# Altium integrated library NSC Switcher.IntLib: 889 symbols (part 12 of 23)
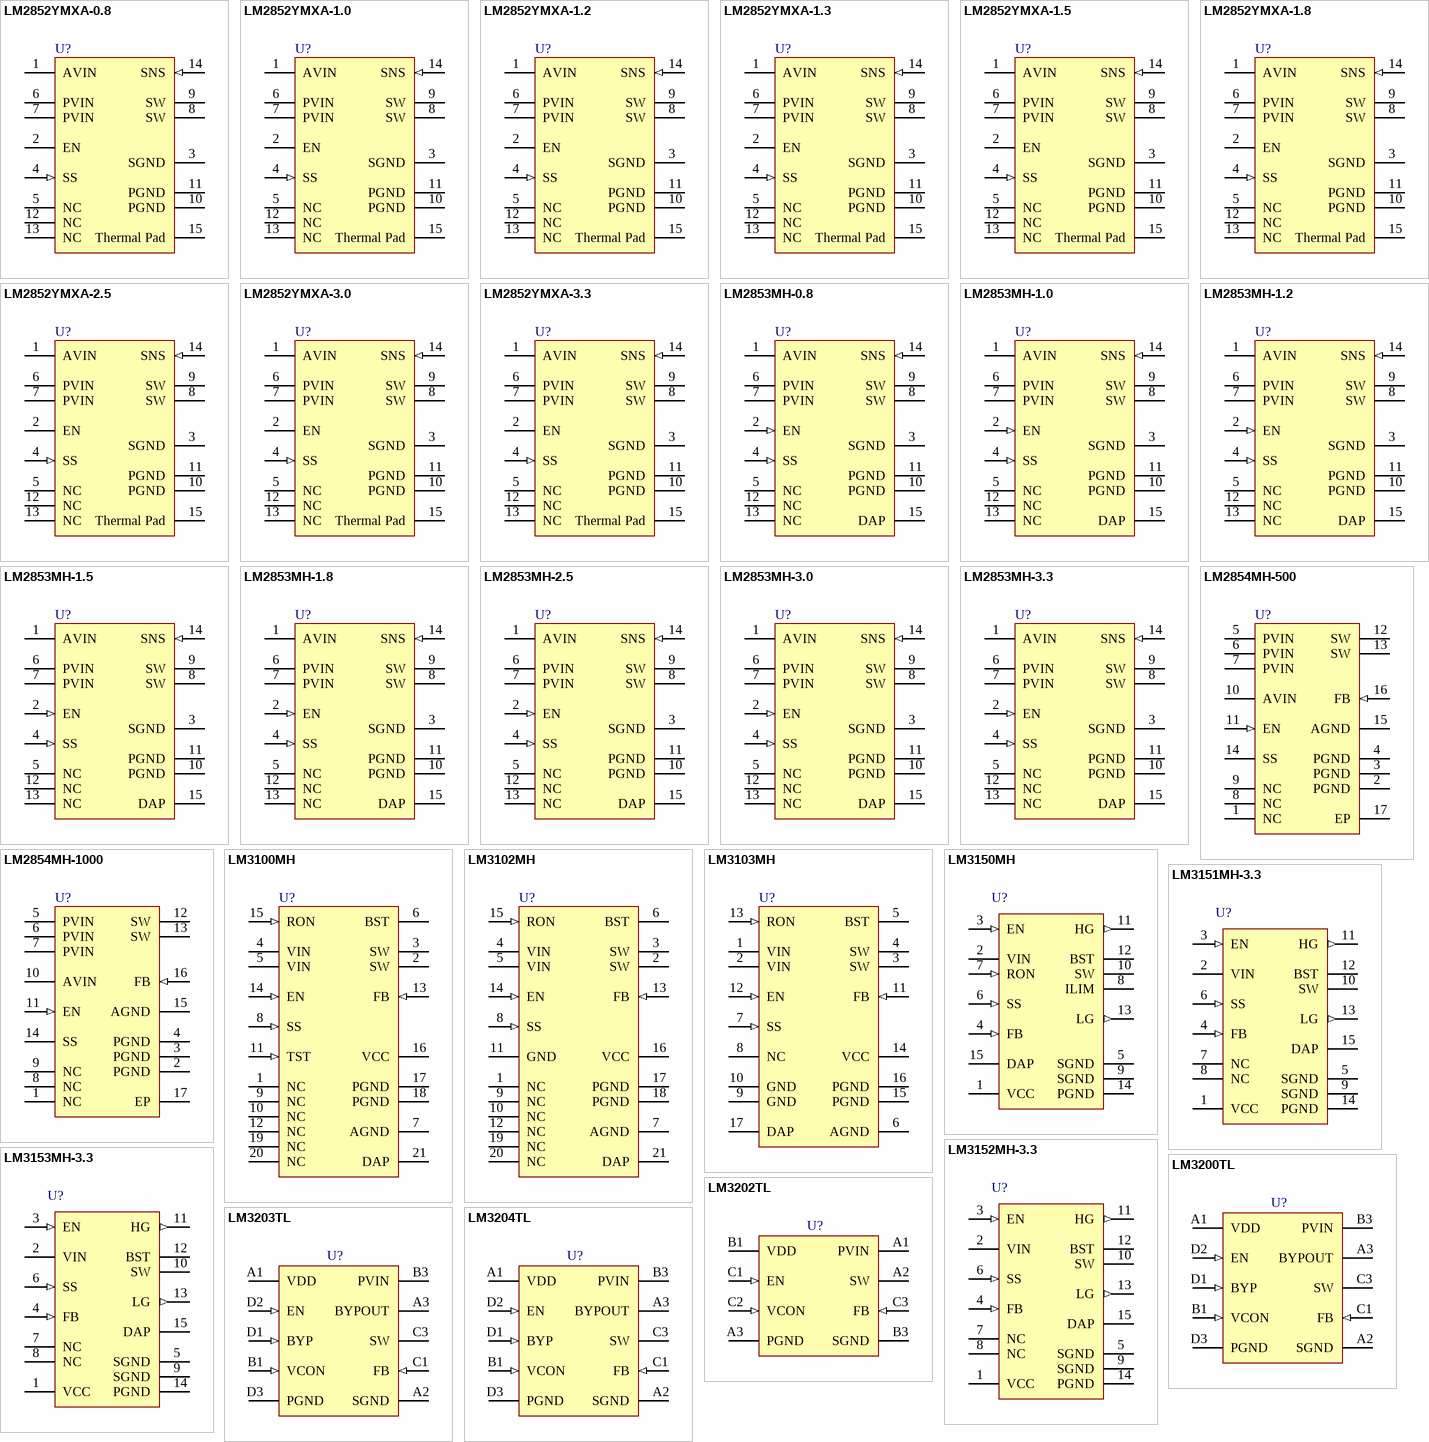
[diagram p38: symbols LM2852YMXA-0.8 to LM3204TL]

## LM2852YMXA-3.0
designator U?
2A 500/1500kHz Synchronous SIMPLE SWITCHER; Buck Regulator; PartNumber: LM2852YMXA-3.0; Manufacturer: National Semiconductor; PackageTopMarking: NSUZXYTT*2852Y*3.0; PowerWise: N; Published: 4-Dec-2008; DatasheetVersion: Oct-2006; PackageVersion: revA, Feb-2003; PackageReference: MXA14A; Publisher: Altium Limited; PackageDescription: Molded TSSOP, JEDEC, Exposed Pad, 5.0 x 4.4 x 0.9mm Body, 14 Lead, 0.65mm Pitch; CompType: Switcher; RoHS: Y; PinCount: 14; DigiKeyPartNumber: LM2852YMXA-3.0-ND; Code_JEDEC: MO-153-ABT-1; ComponentLink1Description: LM2852 Datasheet; ComponentLink1URL: http://www.national.com/ds/LM/LM2852.pdf; ComponentLink2Description: LM2852 Web Page; ComponentLink2URL: http://www.national.com/pf/LM/LM2852.html; ComponentLink3Description: MXA14A Package Page; ComponentLink3URL: http://www.national.com/packaging/folders/mxa14a.html
footprint MXA14A_N (TSOP, 14-Leads, Body 5x4.4mm, Pitch 0.65mm, Exposed Pad, IPC Medium Density)
footprint MXA14A_L (TSOP, 14-Leads, Body 5x4.4mm, Pitch 0.65mm, Exposed Pad, IPC High Density)
footprint MXA14A_M (TSOP, 14-Leads, Body 5x4.4mm, Pitch 0.65mm, Exposed Pad, IPC Low Density)
pins: 1 AVIN (power), 2 EN, 3 SGND (power), 4 SS (in), 5 NC, 6 PVIN (power), 7 PVIN (power), 8 SW (power), 9 SW (power), 10 PGND (power), 11 PGND (power), 12 NC, 13 NC, 14 SNS (in), 15 Thermal Pad (power)

## LM2852YMXA-3.3
designator U?
2A 500/1500kHz Synchronous SIMPLE SWITCHER; Buck Regulator; PartNumber: LM2852YMXA-3.3; Manufacturer: National Semiconductor; PackageTopMarking: NSUZXYTT*2852Y*-3.3; PowerWise: Y; Published: 4-Dec-2008; DatasheetVersion: Oct-2006; PackageVersion: revA, Feb-2003; PackageReference: MXA14A; Publisher: Altium Limited; PackageDescription: Molded TSSOP, JEDEC, Exposed Pad, 5.0 x 4.4 x 0.9mm Body, 14 Lead, 0.65mm Pitch; CompType: Switcher; RoHS: Y; PinCount: 14; DigiKeyPartNumber: LM2852YMXA-3.3-ND; Code_JEDEC: MO-153-ABT-1; ComponentLink1Description: LM2852 Datasheet; ComponentLink1URL: http://www.national.com/ds/LM/LM2852.pdf; ComponentLink2Description: LM2852 Web Page; ComponentLink2URL: http://www.national.com/pf/LM/LM2852.html; ComponentLink3Description: MXA14A Package Page; ComponentLink3URL: http://www.national.com/packaging/folders/mxa14a.html
footprint MXA14A_N (TSOP, 14-Leads, Body 5x4.4mm, Pitch 0.65mm, Exposed Pad, IPC Medium Density)
footprint MXA14A_L (TSOP, 14-Leads, Body 5x4.4mm, Pitch 0.65mm, Exposed Pad, IPC High Density)
footprint MXA14A_M (TSOP, 14-Leads, Body 5x4.4mm, Pitch 0.65mm, Exposed Pad, IPC Low Density)
pins: 1 AVIN (power), 2 EN, 3 SGND (power), 4 SS (in), 5 NC, 6 PVIN (power), 7 PVIN (power), 8 SW (power), 9 SW (power), 10 PGND (power), 11 PGND (power), 12 NC, 13 NC, 14 SNS (in), 15 Thermal Pad (power)

## LM2853MH-0.8
designator U?
3A 550 kHz Synchronous SIMPLE SWITCHER; Buck Regulator; PartNumber: LM2853MH-0.8; Manufacturer: National Semiconductor; PackageTopMarking: NSUZXYTT*LM2853*-0.8; PowerWise: Y; Published: 4-Dec-2008; DatasheetVersion: Oct-2006; PackageVersion: revA, Feb-2003; PackageReference: MXA14A; Publisher: Altium Limited; PackageDescription: Molded TSSOP, JEDEC, Exposed Pad, 5.0 x 4.4 x 0.9mm Body, 14 Lead, 0.65mm Pitch; CompType: Switcher; RoHS: Y; PinCount: 14; DigiKeyPartNumber: LM2853MH-0.8-ND; Code_JEDEC: MO-153-ABT-1; ComponentLink1Description: LM2853 Datasheet; ComponentLink1URL: http://www.national.com/ds/LM/LM2853.pdf; ComponentLink2Description: LM2853 Web Page; ComponentLink2URL: http://www.national.com/pf/LM/LM2853.html; ComponentLink3Description: MXA14A Package Page; ComponentLink3URL: http://www.national.com/packaging/folders/mxa14a.html
footprint MXA14A_N (TSOP, 14-Leads, Body 5x4.4mm, Pitch 0.65mm, Exposed Pad, IPC Medium Density)
footprint MXA14A_L (TSOP, 14-Leads, Body 5x4.4mm, Pitch 0.65mm, Exposed Pad, IPC High Density)
footprint MXA14A_M (TSOP, 14-Leads, Body 5x4.4mm, Pitch 0.65mm, Exposed Pad, IPC Low Density)
pins: 1 AVIN (power), 2 EN (in), 3 SGND (power), 4 SS (in), 5 NC, 6 PVIN (power), 7 PVIN (power), 8 SW (power), 9 SW (power), 10 PGND (power), 11 PGND (power), 12 NC, 13 NC, 14 SNS (in), 15 DAP (power)

## LM2853MH-1.0
designator U?
3A 550 kHz Synchronous SIMPLE SWITCHER; Buck Regulator; PartNumber: LM2853MH-1.0; Manufacturer: National Semiconductor; PackageTopMarking: NSUZXYTT*LM2853*-1.0; PowerWise: Y; Published: 4-Dec-2008; DatasheetVersion: Oct-2006; PackageVersion: revA, Feb-2003; PackageReference: MXA14A; Publisher: Altium Limited; PackageDescription: Molded TSSOP, JEDEC, Exposed Pad, 5.0 x 4.4 x 0.9mm Body, 14 Lead, 0.65mm Pitch; CompType: Switcher; RoHS: Y; PinCount: 14; DigiKeyPartNumber: LM2853MH-1.0-ND; Code_JEDEC: MO-153-ABT-1; ComponentLink1Description: LM2853 Datasheet; ComponentLink1URL: http://www.national.com/ds/LM/LM2853.pdf; ComponentLink2Description: LM2853 Web Page; ComponentLink2URL: http://www.national.com/pf/LM/LM2853.html; ComponentLink3Description: MXA14A Package Page; ComponentLink3URL: http://www.national.com/packaging/folders/mxa14a.html
footprint MXA14A_N (TSOP, 14-Leads, Body 5x4.4mm, Pitch 0.65mm, Exposed Pad, IPC Medium Density)
footprint MXA14A_L (TSOP, 14-Leads, Body 5x4.4mm, Pitch 0.65mm, Exposed Pad, IPC High Density)
footprint MXA14A_M (TSOP, 14-Leads, Body 5x4.4mm, Pitch 0.65mm, Exposed Pad, IPC Low Density)
pins: 1 AVIN (power), 2 EN (in), 3 SGND (power), 4 SS (in), 5 NC, 6 PVIN (power), 7 PVIN (power), 8 SW (power), 9 SW (power), 10 PGND (power), 11 PGND (power), 12 NC, 13 NC, 14 SNS (in), 15 DAP (power)

## LM2853MH-1.2
designator U?
3A 550 kHz Synchronous SIMPLE SWITCHER; Buck Regulator; PartNumber: LM2853MH-1.2; Manufacturer: National Semiconductor; PackageTopMarking: NSUZXYTT*LM2853*-1.2; PowerWise: Y; Published: 4-Dec-2008; DatasheetVersion: Oct-2006; PackageVersion: revA, Feb-2003; PackageReference: MXA14A; Publisher: Altium Limited; PackageDescription: Molded TSSOP, JEDEC, Exposed Pad, 5.0 x 4.4 x 0.9mm Body, 14 Lead, 0.65mm Pitch; CompType: Switcher; RoHS: Y; PinCount: 14; DigiKeyPartNumber: LM2853MH-1.2-ND; Code_JEDEC: MO-153-ABT-1; ComponentLink1Description: LM2853 Datasheet; ComponentLink1URL: http://www.national.com/ds/LM/LM2853.pdf; ComponentLink2Description: LM2853 Web Page; ComponentLink2URL: http://www.national.com/pf/LM/LM2853.html; ComponentLink3Description: MXA14A Package Page; ComponentLink3URL: http://www.national.com/packaging/folders/mxa14a.html
footprint MXA14A_N (TSOP, 14-Leads, Body 5x4.4mm, Pitch 0.65mm, Exposed Pad, IPC Medium Density)
footprint MXA14A_L (TSOP, 14-Leads, Body 5x4.4mm, Pitch 0.65mm, Exposed Pad, IPC High Density)
footprint MXA14A_M (TSOP, 14-Leads, Body 5x4.4mm, Pitch 0.65mm, Exposed Pad, IPC Low Density)
pins: 1 AVIN (power), 2 EN (in), 3 SGND (power), 4 SS (in), 5 NC, 6 PVIN (power), 7 PVIN (power), 8 SW (power), 9 SW (power), 10 PGND (power), 11 PGND (power), 12 NC, 13 NC, 14 SNS (in), 15 DAP (power)

## LM2853MH-1.5
designator U?
3A 550 kHz Synchronous SIMPLE SWITCHER; Buck Regulator; PartNumber: LM2853MH-1.5; Manufacturer: National Semiconductor; PackageTopMarking: NSUZXYTT*LM2853*-1.5; PowerWise: Y; Published: 4-Dec-2008; DatasheetVersion: Oct-2006; PackageVersion: revA, Feb-2003; PackageReference: MXA14A; Publisher: Altium Limited; PackageDescription: Molded TSSOP, JEDEC, Exposed Pad, 5.0 x 4.4 x 0.9mm Body, 14 Lead, 0.65mm Pitch; CompType: Switcher; RoHS: Y; PinCount: 14; DigiKeyPartNumber: LM2853MH-1.5-ND; Code_JEDEC: MO-153-ABT-1; ComponentLink1Description: LM2853 Datasheet; ComponentLink1URL: http://www.national.com/ds/LM/LM2853.pdf; ComponentLink2Description: LM2853 Web Page; ComponentLink2URL: http://www.national.com/pf/LM/LM2853.html; ComponentLink3Description: MXA14A Package Page; ComponentLink3URL: http://www.national.com/packaging/folders/mxa14a.html
footprint MXA14A_N (TSOP, 14-Leads, Body 5x4.4mm, Pitch 0.65mm, Exposed Pad, IPC Medium Density)
footprint MXA14A_L (TSOP, 14-Leads, Body 5x4.4mm, Pitch 0.65mm, Exposed Pad, IPC High Density)
footprint MXA14A_M (TSOP, 14-Leads, Body 5x4.4mm, Pitch 0.65mm, Exposed Pad, IPC Low Density)
pins: 1 AVIN (power), 2 EN (in), 3 SGND (power), 4 SS (in), 5 NC, 6 PVIN (power), 7 PVIN (power), 8 SW (power), 9 SW (power), 10 PGND (power), 11 PGND (power), 12 NC, 13 NC, 14 SNS (in), 15 DAP (power)

## LM2853MH-1.8
designator U?
3A 550 kHz Synchronous SIMPLE SWITCHER; Buck Regulator; PartNumber: LM2853MH-1.8; Manufacturer: National Semiconductor; PackageTopMarking: NSUZXYTT*LM2853*-1.8; PowerWise: Y; Published: 4-Dec-2008; DatasheetVersion: Oct-2006; PackageVersion: revA, Feb-2003; PackageReference: MXA14A; Publisher: Altium Limited; PackageDescription: Molded TSSOP, JEDEC, Exposed Pad, 5.0 x 4.4 x 0.9mm Body, 14 Lead, 0.65mm Pitch; CompType: Switcher; RoHS: Y; PinCount: 14; DigiKeyPartNumber: LM2853MH-1.8-ND; Code_JEDEC: MO-153-ABT-1; ComponentLink1Description: LM2853 Datasheet; ComponentLink1URL: http://www.national.com/ds/LM/LM2853.pdf; ComponentLink2Description: LM2853 Web Page; ComponentLink2URL: http://www.national.com/pf/LM/LM2853.html; ComponentLink3Description: MXA14A Package Page; ComponentLink3URL: http://www.national.com/packaging/folders/mxa14a.html
footprint MXA14A_N (TSOP, 14-Leads, Body 5x4.4mm, Pitch 0.65mm, Exposed Pad, IPC Medium Density)
footprint MXA14A_L (TSOP, 14-Leads, Body 5x4.4mm, Pitch 0.65mm, Exposed Pad, IPC High Density)
footprint MXA14A_M (TSOP, 14-Leads, Body 5x4.4mm, Pitch 0.65mm, Exposed Pad, IPC Low Density)
pins: 1 AVIN (power), 2 EN (in), 3 SGND (power), 4 SS (in), 5 NC, 6 PVIN (power), 7 PVIN (power), 8 SW (power), 9 SW (power), 10 PGND (power), 11 PGND (power), 12 NC, 13 NC, 14 SNS (in), 15 DAP (power)

## LM2853MH-2.5
designator U?
3A 550 kHz Synchronous SIMPLE SWITCHER; Buck Regulator; PartNumber: LM2853MH-2.5; Manufacturer: National Semiconductor; PackageTopMarking: NSUZXYTT*LM2853*-2.5; PowerWise: Y; Published: 4-Dec-2008; DatasheetVersion: Oct-2006; PackageVersion: revA, Feb-2003; PackageReference: MXA14A; Publisher: Altium Limited; PackageDescription: Molded TSSOP, JEDEC, Exposed Pad, 5.0 x 4.4 x 0.9mm Body, 14 Lead, 0.65mm Pitch; CompType: Switcher; RoHS: Y; PinCount: 14; DigiKeyPartNumber: LM2853MH-2.5-ND; Code_JEDEC: MO-153-ABT-1; ComponentLink1Description: LM2853 Datasheet; ComponentLink1URL: http://www.national.com/ds/LM/LM2853.pdf; ComponentLink2Description: LM2853 Web Page; ComponentLink2URL: http://www.national.com/pf/LM/LM2853.html; ComponentLink3Description: MXA14A Package Page; ComponentLink3URL: http://www.national.com/packaging/folders/mxa14a.html
footprint MXA14A_N (TSOP, 14-Leads, Body 5x4.4mm, Pitch 0.65mm, Exposed Pad, IPC Medium Density)
footprint MXA14A_L (TSOP, 14-Leads, Body 5x4.4mm, Pitch 0.65mm, Exposed Pad, IPC High Density)
footprint MXA14A_M (TSOP, 14-Leads, Body 5x4.4mm, Pitch 0.65mm, Exposed Pad, IPC Low Density)
pins: 1 AVIN (power), 2 EN (in), 3 SGND (power), 4 SS (in), 5 NC, 6 PVIN (power), 7 PVIN (power), 8 SW (power), 9 SW (power), 10 PGND (power), 11 PGND (power), 12 NC, 13 NC, 14 SNS (in), 15 DAP (power)

## LM2853MH-3.0
designator U?
3A 550 kHz Synchronous SIMPLE SWITCHER; Buck Regulator; PartNumber: LM2853MH-3.0; Manufacturer: National Semiconductor; PackageTopMarking: NSUZXYTT*LM2853*-3.0; PowerWise: Y; Published: 4-Dec-2008; DatasheetVersion: Oct-2006; PackageVersion: revA, Feb-2003; PackageReference: MXA14A; Publisher: Altium Limited; PackageDescription: Molded TSSOP, JEDEC, Exposed Pad, 5.0 x 4.4 x 0.9mm Body, 14 Lead, 0.65mm Pitch; CompType: Switcher; RoHS: Y; PinCount: 14; DigiKeyPartNumber: LM2853MH-3.0-ND; Code_JEDEC: MO-153-ABT-1; ComponentLink1Description: LM2853 Datasheet; ComponentLink1URL: http://www.national.com/ds/LM/LM2853.pdf; ComponentLink2Description: LM2853 Web Page; ComponentLink2URL: http://www.national.com/pf/LM/LM2853.html; ComponentLink3Description: MXA14A Package Page; ComponentLink3URL: http://www.national.com/packaging/folders/mxa14a.html
footprint MXA14A_N (TSOP, 14-Leads, Body 5x4.4mm, Pitch 0.65mm, Exposed Pad, IPC Medium Density)
footprint MXA14A_L (TSOP, 14-Leads, Body 5x4.4mm, Pitch 0.65mm, Exposed Pad, IPC High Density)
footprint MXA14A_M (TSOP, 14-Leads, Body 5x4.4mm, Pitch 0.65mm, Exposed Pad, IPC Low Density)
pins: 1 AVIN (power), 2 EN (in), 3 SGND (power), 4 SS (in), 5 NC, 6 PVIN (power), 7 PVIN (power), 8 SW (power), 9 SW (power), 10 PGND (power), 11 PGND (power), 12 NC, 13 NC, 14 SNS (in), 15 DAP (power)

## LM2853MH-3.3
designator U?
3A 550 kHz Synchronous SIMPLE SWITCHER; Buck Regulator; PartNumber: LM2853MH-3.3; Manufacturer: National Semiconductor; PackageTopMarking: NSUZXYTT*LM2853*-3.3; PowerWise: Y; Published: 4-Dec-2008; DatasheetVersion: Oct-2006; PackageVersion: revA, Feb-2003; PackageReference: MXA14A; Publisher: Altium Limited; PackageDescription: Molded TSSOP, JEDEC, Exposed Pad, 5.0 x 4.4 x 0.9mm Body, 14 Lead, 0.65mm Pitch; CompType: Switcher; RoHS: Y; PinCount: 14; DigiKeyPartNumber: LM2853MH-3.3-ND; Code_JEDEC: MO-153-ABT-1; ComponentLink1Description: LM2853 Datasheet; ComponentLink1URL: http://www.national.com/ds/LM/LM2853.pdf; ComponentLink2Description: LM2853 Web Page; ComponentLink2URL: http://www.national.com/pf/LM/LM2853.html; ComponentLink3Description: MXA14A Package Page; ComponentLink3URL: http://www.national.com/packaging/folders/mxa14a.html
footprint MXA14A_N (TSOP, 14-Leads, Body 5x4.4mm, Pitch 0.65mm, Exposed Pad, IPC Medium Density)
footprint MXA14A_L (TSOP, 14-Leads, Body 5x4.4mm, Pitch 0.65mm, Exposed Pad, IPC High Density)
footprint MXA14A_M (TSOP, 14-Leads, Body 5x4.4mm, Pitch 0.65mm, Exposed Pad, IPC Low Density)
pins: 1 AVIN (power), 2 EN (in), 3 SGND (power), 4 SS (in), 5 NC, 6 PVIN (power), 7 PVIN (power), 8 SW (power), 9 SW (power), 10 PGND (power), 11 PGND (power), 12 NC, 13 NC, 14 SNS (in), 15 DAP (power)

## LM2854MH-500
designator U?
4A 500 kHz / 1 MHz PowerWise Synchronous SIMPLE SWITCHER Buck Regulator; PartNumber: LM2854MH-500; Manufacturer: National Semiconductor; PackageTopMarking: NSUZXYTT*LM2854*-500; Published: 4-Dec-2008; DatasheetVersion: Apr-2008; PackageVersion: revA, Apr-2003; PackageReference: MXA16A; Publisher: Altium Limited; PackageDescription: Molded TSSOP, Jedec, Exposed Pad, 5.0 x 4.4 x 0.9mm Body,16 Lead, 0.65mm Pitch; CompType: Switcher; RoHS: Y; PinCount: 16; DigiKeyPartNumber: LM2854MH-500-ND; Code_JEDEC: MO-153-ABT; ComponentLink1Description: LM2854 Datasheet; ComponentLink1URL: http://www.national.com/ds/LM/LM2854.pdf; ComponentLink2Description: LM2854 Web Page; ComponentLink2URL: http://www.national.com/pf/LM/LM2854.html; ComponentLink3Description: MXA16A Package Drawing; ComponentLink3URL: http://www.national.com/packaging/folders/mxa16a.html
footprint MXA16A_N (TSOP, 16-Leads, Body 5x4.4mm, Pitch 0.65mm, Exposed Pad, IPC Medium Density)
footprint MXA16A_L (TSOP, 16-Leads, Body 5x4.4mm, Pitch 0.65mm, Exposed Pad, IPC High Density)
footprint MXA16A_M (TSOP, 16-Leads, Body 5x4.4mm, Pitch 0.65mm, Exposed Pad, IPC Low Density)
pins: 1 NC, 2 PGND (power), 3 PGND (power), 4 PGND (power), 5 PVIN (power), 6 PVIN (power), 7 PVIN (power), 8 NC, 9 NC, 10 AVIN (power), 11 EN (in), 12 SW (power), 13 SW (power), 14 SS, 15 AGND (power), 16 FB (in), 17 EP (power)

## LM2854MH-1000
designator U?
4A 500 kHz / 1 MHz PowerWise Synchronous SIMPLE SWITCHER Buck Regulator; PartNumber: LM2854MH-1000; Manufacturer: National Semiconductor; PackageTopMarking: NSUZXYTT*LM2854*-1000; Published: 4-Dec-2008; DatasheetVersion: Apr-2008; PackageVersion: revA, Apr-2003; PackageReference: MXA16A; Publisher: Altium Limited; PackageDescription: Molded TSSOP, Jedec, Exposed Pad, 5.0 x 4.4 x 0.9mm Body,16 Lead, 0.65mm Pitch; CompType: Switcher; RoHS: Y; PinCount: 16; DigiKeyPartNumber: LM2854MH-1000-ND; Code_JEDEC: MO-153-ABT; ComponentLink1Description: LM2854 Datasheet; ComponentLink1URL: http://www.national.com/ds/LM/LM2854.pdf; ComponentLink2Description: LM2854 Web Page; ComponentLink2URL: http://www.national.com/pf/LM/LM2854.html; ComponentLink3Description: MXA16A Package Drawing; ComponentLink3URL: http://www.national.com/packaging/folders/mxa16a.html
footprint MXA16A_N (TSOP, 16-Leads, Body 5x4.4mm, Pitch 0.65mm, Exposed Pad, IPC Medium Density)
footprint MXA16A_L (TSOP, 16-Leads, Body 5x4.4mm, Pitch 0.65mm, Exposed Pad, IPC High Density)
footprint MXA16A_M (TSOP, 16-Leads, Body 5x4.4mm, Pitch 0.65mm, Exposed Pad, IPC Low Density)
pins: 1 NC, 2 PGND (power), 3 PGND (power), 4 PGND (power), 5 PVIN (power), 6 PVIN (power), 7 PVIN (power), 8 NC, 9 NC, 10 AVIN (power), 11 EN (in), 12 SW (power), 13 SW (power), 14 SS, 15 AGND (power), 16 FB (in), 17 EP (power)

## LM3100MH
designator U?
Synchronous 1MHz 1.5A Step-Down Voltage  Regulator; PartNumber: LM3100MH; Manufacturer: National Semiconductor; CompType: Switcher; PackageTopMarking: NSUZXYTT*LM3100*MH; PowerWise: Y; Published: 4-Dec-2008; DatasheetVersion: Aug-2007; PackageVersion: revC, Jul-2006; PackageReference: MXA20A; Publisher: Altium Limited; PackageDescription: Molded TSSOP, Jedec, 6.5 x 4.4 x 0.9mm Body, 20 Lead, 0.65mm Pitch, Exposed Pad; RoHS: Y; PinCount: 20; DigiKeyPartNumber: LM3100MH-ND; Code_JEDEC: MO-153-ACT; ComponentLink1Description: LM3100 Datasheet; ComponentLink1URL: http://www.national.com/ds/LM/LM3100.pdf; ComponentLink2Description: LM3100 Web Page; ComponentLink2URL: http://www.national.com/pf/LM/LM3100.html; ComponentLink3Description: MXA20A Package Page; ComponentLink3URL: http://www.national.com/packaging/folders/mxa20a.html
footprint MXA20A_N (TSOP, 20-Leads, Body 6.5x4.4mm, Pitch 0.65mm, Exposed Pad, IPC Medium Density)
footprint MXA20A_L (TSOP, 20-Leads, Body 6.5x4.4mm, Pitch 0.65mm, Exposed Pad, IPC High Density)
footprint MXA20A_M (TSOP, 20-Leads, Body 6.5x4.4mm, Pitch 0.65mm, Exposed Pad, IPC Low Density)
pins: 1 NC, 2 SW (power), 3 SW (power), 4 VIN (power), 5 VIN (power), 6 BST, 7 AGND (power), 8 SS (in), 9 NC, 10 NC, 11 TST (in), 12 NC, 13 FB (in), 14 EN (in), 15 RON (in), 16 VCC (power), 17 PGND (power), 18 PGND (power), 19 NC, 20 NC, 21 DAP (power)

## LM3102MH
designator U?
Synchronous 1MHz 2.5A Step-Down Voltage  Regulator; PartNumber: LM3102MH; Manufacturer: National Semiconductor; CompType: Switcher; PackageTopMarking: NSUZXYTT*LM3102*MH; PowerWise: Y; Published: 4-Dec-2008; DatasheetVersion: Sep-2007; PackageVersion: revC, Jul-2006; PackageReference: MXA20A; Publisher: Altium Limited; PackageDescription: Molded TSSOP, Jedec, 6.5 x 4.4 x 0.9mm Body, 20 Lead, 0.65mm Pitch, Exposed Pad; RoHS: Y; PinCount: 20; DigiKeyPartNumber: LM3102MH-ND; Code_JEDEC: MO-153-ACT; ComponentLink1Description: LM3102 Datasheet; ComponentLink1URL: http://www.national.com/ds/LM/LM3102.pdf; ComponentLink2Description: LM3102 Web Page; ComponentLink2URL: http://www.national.com/pf/LM/LM3102.html; ComponentLink3Description: MXA20A Package Page; ComponentLink3URL: http://www.national.com/packaging/folders/mxa20a.html
footprint MXA20A_N (TSOP, 20-Leads, Body 6.5x4.4mm, Pitch 0.65mm, Exposed Pad, IPC Medium Density)
footprint MXA20A_L (TSOP, 20-Leads, Body 6.5x4.4mm, Pitch 0.65mm, Exposed Pad, IPC High Density)
footprint MXA20A_M (TSOP, 20-Leads, Body 6.5x4.4mm, Pitch 0.65mm, Exposed Pad, IPC Low Density)
pins: 1 NC, 2 SW (power), 3 SW (power), 4 VIN (power), 5 VIN (power), 6 BST, 7 AGND (power), 8 SS (in), 9 NC, 10 NC, 11 GND (power), 12 NC, 13 FB (in), 14 EN (in), 15 RON (in), 16 VCC (power), 17 PGND (power), 18 PGND (power), 19 NC, 20 NC, 21 DAP (power)

## LM3103MH
designator U?
Synchronous 1MHz 0.75A Step-Down Voltage  Regulator; PartNumber: LM3103MH; Manufacturer: National Semiconductor; CompType: Switcher; PackageTopMarking: NSUZXYTT*LM3103*MH; PowerWise: Y; Published: 4-Dec-2008; DatasheetVersion: Oct-2007; PackageVersion: revA, Apr-2003; PackageReference: MXA16A; Publisher: Altium Limited; PackageDescription: Molded TSSOP, Jedec, Exposed Pad, 5.0 x 4.4 x 0.9mm Body,16 Lead, 0.65mm Pitch; RoHS: Y; PinCount: 16; DigiKeyPartNumber: LM3103MH-ND; Code_JEDEC: MO-153-ABT; ComponentLink1Description: LM3103 Datasheet; ComponentLink1URL: http://www.national.com/ds/LM/LM3103.pdf; ComponentLink2Description: LM3103 Web Page; ComponentLink2URL: http://www.national.com/pf/LM/LM3103.html; ComponentLink3Description: MXA16A Package Page; ComponentLink3URL: http://www.national.com/packaging/folders/mxa16a.html
footprint MXA16A_N (TSOP, 16-Leads, Body 5x4.4mm, Pitch 0.65mm, Exposed Pad, IPC Medium Density)
footprint MXA16A_L (TSOP, 16-Leads, Body 5x4.4mm, Pitch 0.65mm, Exposed Pad, IPC High Density)
footprint MXA16A_M (TSOP, 16-Leads, Body 5x4.4mm, Pitch 0.65mm, Exposed Pad, IPC Low Density)
pins: 1 VIN (power), 2 VIN (power), 3 SW (power), 4 SW (power), 5 BST, 6 AGND (power), 7 SS (in), 8 NC, 9 GND (power), 10 GND (power), 11 FB (in), 12 EN (in), 13 RON (in), 14 VCC (power), 15 PGND (power), 16 PGND (power), 17 DAP (power)

## LM3150MH
designator U?
SIMPLE SWITCHER CONTROLLER, 42V Synchronous Step-Down; PartNumber: LM3150MH; Manufacturer: National Semiconductor; PackageTopMarking: NSUZXYTT*LM3150*MH; PowerWise: Y; Published: 4-Dec-2008; DatasheetVersion: Oct-2008; PackageVersion: revA, Feb-2003; PackageReference: MXA14A; Publisher: Altium Limited; PackageDescription: Molded TSSOP, JEDEC, Exposed Pad, 5.0 x 4.4 x 0.9mm Body, 14 Lead, 0.65mm Pitch; CompType: Switcher; RoHS: Y; PinCount: 14; DigiKeyPartNumber: LM3150MH-ND; Code_JEDEC: MO-153-ABT-1; ComponentLink1Description: LM3150 Datasheet; ComponentLink1URL: http://www.national.com/ds/LM/LM3150.pdf; ComponentLink2Description: LM3150 Web Page; ComponentLink2URL: http://www.national.com/pf/LM/LM3150.html; ComponentLink3Description: MXA14A Package Drawing; ComponentLink3URL: http://www.national.com/packaging/folders/mxa14a.html
footprint MXA14A_N (TSOP, 14-Leads, Body 5x4.4mm, Pitch 0.65mm, Exposed Pad, IPC Medium Density)
footprint MXA14A_L (TSOP, 14-Leads, Body 5x4.4mm, Pitch 0.65mm, Exposed Pad, IPC High Density)
footprint MXA14A_M (TSOP, 14-Leads, Body 5x4.4mm, Pitch 0.65mm, Exposed Pad, IPC Low Density)
pins: 1 VCC (power), 2 VIN (power), 3 EN (in), 4 FB (in), 5 SGND (power), 6 SS (in), 7 RON (in), 8 ILIM, 9 SGND (power), 10 SW (power), 11 HG (out), 12 BST, 13 LG (out), 14 PGND (power), 15 DAP (power)

## LM3151MH-3.3
designator U?
SIMPLE SWITCHER CONTROLLER, 42V Synchronous Step-Down; PartNumber: LM3151MH-3.3; Manufacturer: National Semiconductor; PackageTopMarking: NSUZXYTT*LM3151*-3.3; PowerWise: Y; Published: 4-Dec-2008; DatasheetVersion: Oct-2008; PackageVersion: revA, Feb-2003; PackageReference: MXA14A; Publisher: Altium Limited; PackageDescription: Molded TSSOP, JEDEC, Exposed Pad, 5.0 x 4.4 x 0.9mm Body, 14 Lead, 0.65mm Pitch; CompType: Switcher; RoHS: Y; PinCount: 14; DigiKeyPartNumber: LM3151MH-3.3-ND; Code_JEDEC: MO-153-ABT-1; ComponentLink1Description: LM3151 Datasheet; ComponentLink1URL: http://www.national.com/ds/LM/LM3151.pdf; ComponentLink2Description: LM3151 Web Page; ComponentLink2URL: http://www.national.com/pf/LM/LM3151.html; ComponentLink3Description: MXA14A Package Drawing; ComponentLink3URL: http://www.national.com/packaging/folders/mxa14a.html
footprint MXA14A_N (TSOP, 14-Leads, Body 5x4.4mm, Pitch 0.65mm, Exposed Pad, IPC Medium Density)
footprint MXA14A_L (TSOP, 14-Leads, Body 5x4.4mm, Pitch 0.65mm, Exposed Pad, IPC High Density)
footprint MXA14A_M (TSOP, 14-Leads, Body 5x4.4mm, Pitch 0.65mm, Exposed Pad, IPC Low Density)
pins: 1 VCC (power), 2 VIN (power), 3 EN (in), 4 FB (in), 5 SGND (power), 6 SS (in), 7 NC, 8 NC, 9 SGND (power), 10 SW (power), 11 HG (out), 12 BST, 13 LG (out), 14 PGND (power), 15 DAP (power)

## LM3152MH-3.3
designator U?
SIMPLE SWITCHER CONTROLLER, 42V Synchronous Step-Down; PartNumber: LM3152MH-3.3; Manufacturer: National Semiconductor; PackageTopMarking: NSUZXYTT*LM3152*-3.3; PowerWise: Y; Published: 4-Dec-2008; DatasheetVersion: Oct-2008; PackageVersion: revA, Feb-2003; PackageReference: MXA14A; Publisher: Altium Limited; PackageDescription: Molded TSSOP, JEDEC, Exposed Pad, 5.0 x 4.4 x 0.9mm Body, 14 Lead, 0.65mm Pitch; CompType: Switcher; RoHS: Y; PinCount: 14; DigiKeyPartNumber: LM3152MH-3.3-ND; Code_JEDEC: MO-153-ABT-1; ComponentLink1Description: LM3152 Datasheet; ComponentLink1URL: http://www.national.com/ds/LM/LM3152.pdf; ComponentLink2Description: LM3152 Web Page; ComponentLink2URL: http://www.national.com/pf/LM/LM3152.html; ComponentLink3Description: MXA14A Package Drawing; ComponentLink3URL: http://www.national.com/packaging/folders/mxa14a.html
footprint MXA14A_N (TSOP, 14-Leads, Body 5x4.4mm, Pitch 0.65mm, Exposed Pad, IPC Medium Density)
footprint MXA14A_L (TSOP, 14-Leads, Body 5x4.4mm, Pitch 0.65mm, Exposed Pad, IPC High Density)
footprint MXA14A_M (TSOP, 14-Leads, Body 5x4.4mm, Pitch 0.65mm, Exposed Pad, IPC Low Density)
pins: 1 VCC (power), 2 VIN (power), 3 EN (in), 4 FB (in), 5 SGND (power), 6 SS (in), 7 NC, 8 NC, 9 SGND (power), 10 SW (power), 11 HG (out), 12 BST, 13 LG (out), 14 PGND (power), 15 DAP (power)

## LM3153MH-3.3
designator U?
SIMPLE SWITCHER CONTROLLER, 42V Synchronous Step-Down; PartNumber: LM3153MH-3.3; Manufacturer: National Semiconductor; PackageTopMarking: NSUZXYTT*LM3153*-3.3; PowerWise: Y; Published: 4-Dec-2008; DatasheetVersion: Oct-2008; PackageVersion: revA, Feb-2003; PackageReference: MXA14A; Publisher: Altium Limited; PackageDescription: Molded TSSOP, JEDEC, Exposed Pad, 5.0 x 4.4 x 0.9mm Body, 14 Lead, 0.65mm Pitch; CompType: Switcher; RoHS: Y; PinCount: 14; DigiKeyPartNumber: LM3153MH-3.3-ND; Code_JEDEC: MO-153-ABT-1; ComponentLink1Description: LM3153 Datasheet; ComponentLink1URL: http://www.national.com/ds/LM/LM3153.pdf; ComponentLink2Description: LM3153 Web Page; ComponentLink2URL: http://www.national.com/pf/LM/LM3153.html; ComponentLink3Description: MXA14A Package Drawing; ComponentLink3URL: http://www.national.com/packaging/folders/mxa14a.html
footprint MXA14A_N (TSOP, 14-Leads, Body 5x4.4mm, Pitch 0.65mm, Exposed Pad, IPC Medium Density)
footprint MXA14A_L (TSOP, 14-Leads, Body 5x4.4mm, Pitch 0.65mm, Exposed Pad, IPC High Density)
footprint MXA14A_M (TSOP, 14-Leads, Body 5x4.4mm, Pitch 0.65mm, Exposed Pad, IPC Low Density)
pins: 1 VCC (power), 2 VIN (power), 3 EN (in), 4 FB (in), 5 SGND (power), 6 SS (in), 7 NC, 8 NC, 9 SGND (power), 10 SW (power), 11 HG (out), 12 BST, 13 LG (out), 14 PGND (power), 15 DAP (power)

## LM3200TL
designator U?
Miniature, Adjustable, Step-Down DC-DC Converter with Bypass Mode for RF Power Amplifiers; PartNumber: LM3200TL; Manufacturer: National Semiconductor; CompType: Switcher; PackageTopMarking: XYTT*I SCUB; Published: 4-Dec-2008; DatasheetVersion: Nov-2005; PackageVersion: revD, Mar-2004; PackageReference: TLP10NHA; Publisher: Altium Limited; PackageDescription: Thin Micro SMD, 10 Bump (Large), Periperal, 0.5mm Pitch; RoHS: Y; PinCount: 10; DigiKeyPartNumber: LM3200TLCT-ND; Code_JEDEC: MO-211-BD; ComponentLink1Description: LM3200 Datasheet; ComponentLink1URL: http://www.national.com/ds/LM/LM3200.pdf; ComponentLink2Description: LM3200 Web Page; ComponentLink2URL: http://www.national.com/pf/LM/LM3200.html; ComponentLink3Description: TLP10NHA Package Drawing; ComponentLink3URL: http://www.national.com/packaging/folders/tlp10nha.html
footprint TLP10NHA (Micro SMD, 10-Leads, Body 2.17x1.82mm, Pitch 0.5mm, NSC Recommended)
pins: A1 VDD (power), A2 SGND (power), A3 BYPOUT (oe), B1 VCON (in), B3 PVIN (power), C1 FB (in), C3 SW, D1 BYP (in), D2 EN (in), D3 PGND (power)

## LM3202TL
designator U?
650mA Miniature, Adjustable, Step-Down DC-DC Converter for RF Power Amplifiers; PartNumber: LM3202TL; Manufacturer: National Semiconductor; CompType: Switcher; PackageTopMarking: XVS*I 29; Published: 4-Dec-2008; DatasheetVersion: Nov-2006; PackageVersion: revC, Jan-2004; PackageReference: TLA08HPA; Publisher: Altium Limited; PackageDescription: Thin Micro SMD, 8 Bump (Large), 0.5mm Pitch; RoHS: Y; PinCount: 8; DigiKeyPartNumber: LM3202TLCT-ND; Code_JEDEC: MO-211-DD; ComponentLink1Description: LM3202 Datasheet; ComponentLink1URL: http://www.national.com/ds/LM/LM3202.pdf; ComponentLink2Description: LM3202 Web Page; ComponentLink2URL: http://www.national.com/pf/LM/LM3202.html; ComponentLink3Description: TLA08HPA Package Drawing; ComponentLink3URL: http://www.national.com/packaging/folders/tla08hpa.html
footprint TLA08HPA (Micro SMD, 8-Leads, Body 1.84x1.69mm, Pitch 0.5mm, NSC Recommended)
pins: A1 PVIN (power), A2 SW, A3 PGND (power), B1 VDD (power), B3 SGND (power), C1 EN (in), C2 VCON (in), C3 FB (in)

## LM3203TL
designator U?
Miniature, Adjustable, Step-Down DC-DC Converter with Bypass Mode for RF Power Amplifiers; PartNumber: LM3203TL; Manufacturer: National Semiconductor; CompType: Switcher; PackageTopMarking: XYTT*I SFYB; Published: 4-Dec-2008; DatasheetVersion: Jul-2005; PackageVersion: revD, Mar-2004; PackageReference: TLP10NHA; Publisher: Altium Limited; PackageDescription: Thin Micro SMD, 10 Bump (Large), Periperal, 0.5mm Pitch; RoHS: Y; PinCount: 10; DigiKeyPartNumber: LM3203TLCT-ND; Code_JEDEC: MO-211-BD; ComponentLink1Description: LM3203 Datasheet; ComponentLink1URL: http://www.national.com/ds/LM/LM3203.pdf; ComponentLink2Description: LM3203 Web Page; ComponentLink2URL: http://www.national.com/pf/LM/LM3203.html; ComponentLink3Description: TLP10NHA Package Drawing; ComponentLink3URL: http://www.national.com/packaging/folders/tlp10nha.html
footprint TLP10NHA (Micro SMD, 10-Leads, Body 2.17x1.82mm, Pitch 0.5mm, NSC Recommended)
pins: A1 VDD (power), A2 SGND (power), A3 BYPOUT (oe), B1 VCON (in), B3 PVIN (power), C1 FB (in), C3 SW, D1 BYP (in), D2 EN (in), D3 PGND (power)

## LM3204TL
designator U?
Miniature, Adjustable, Step-Down DC-DC Converter with Bypass Mode for RF Power Amplifiers; PartNumber: LM3204TL; Manufacturer: National Semiconductor; CompType: Switcher; PackageTopMarking: XYTT*I SJDB; Published: 4-Dec-2008; DatasheetVersion: Nov-2005; PackageVersion: revD, Mar-2004; PackageReference: TLP10NHA; Publisher: Altium Limited; PackageDescription: Thin Micro SMD, 10 Bump (Large), Periperal, 0.5mm Pitch; RoHS: Y; PinCount: 10; DigiKeyPartNumber: LM3204TLCT-ND; Code_JEDEC: MO-211-BD; ComponentLink1Description: LM3204 Datasheet; ComponentLink1URL: http://www.national.com/ds/LM/LM3204.pdf; ComponentLink2Description: LM3204 Web Page; ComponentLink2URL: http://www.national.com/pf/LM/LM3204.html; ComponentLink3Description: TLP10NHA Package Drawing; ComponentLink3URL: http://www.national.com/packaging/folders/tlp10nha.html
footprint TLP10NHA (Micro SMD, 10-Leads, Body 2.17x1.82mm, Pitch 0.5mm, NSC Recommended)
pins: A1 VDD (power), A2 SGND (power), A3 BYPOUT (oe), B1 VCON (in), B3 PVIN (power), C1 FB (in), C3 SW, D1 BYP (in), D2 EN (in), D3 PGND (power)

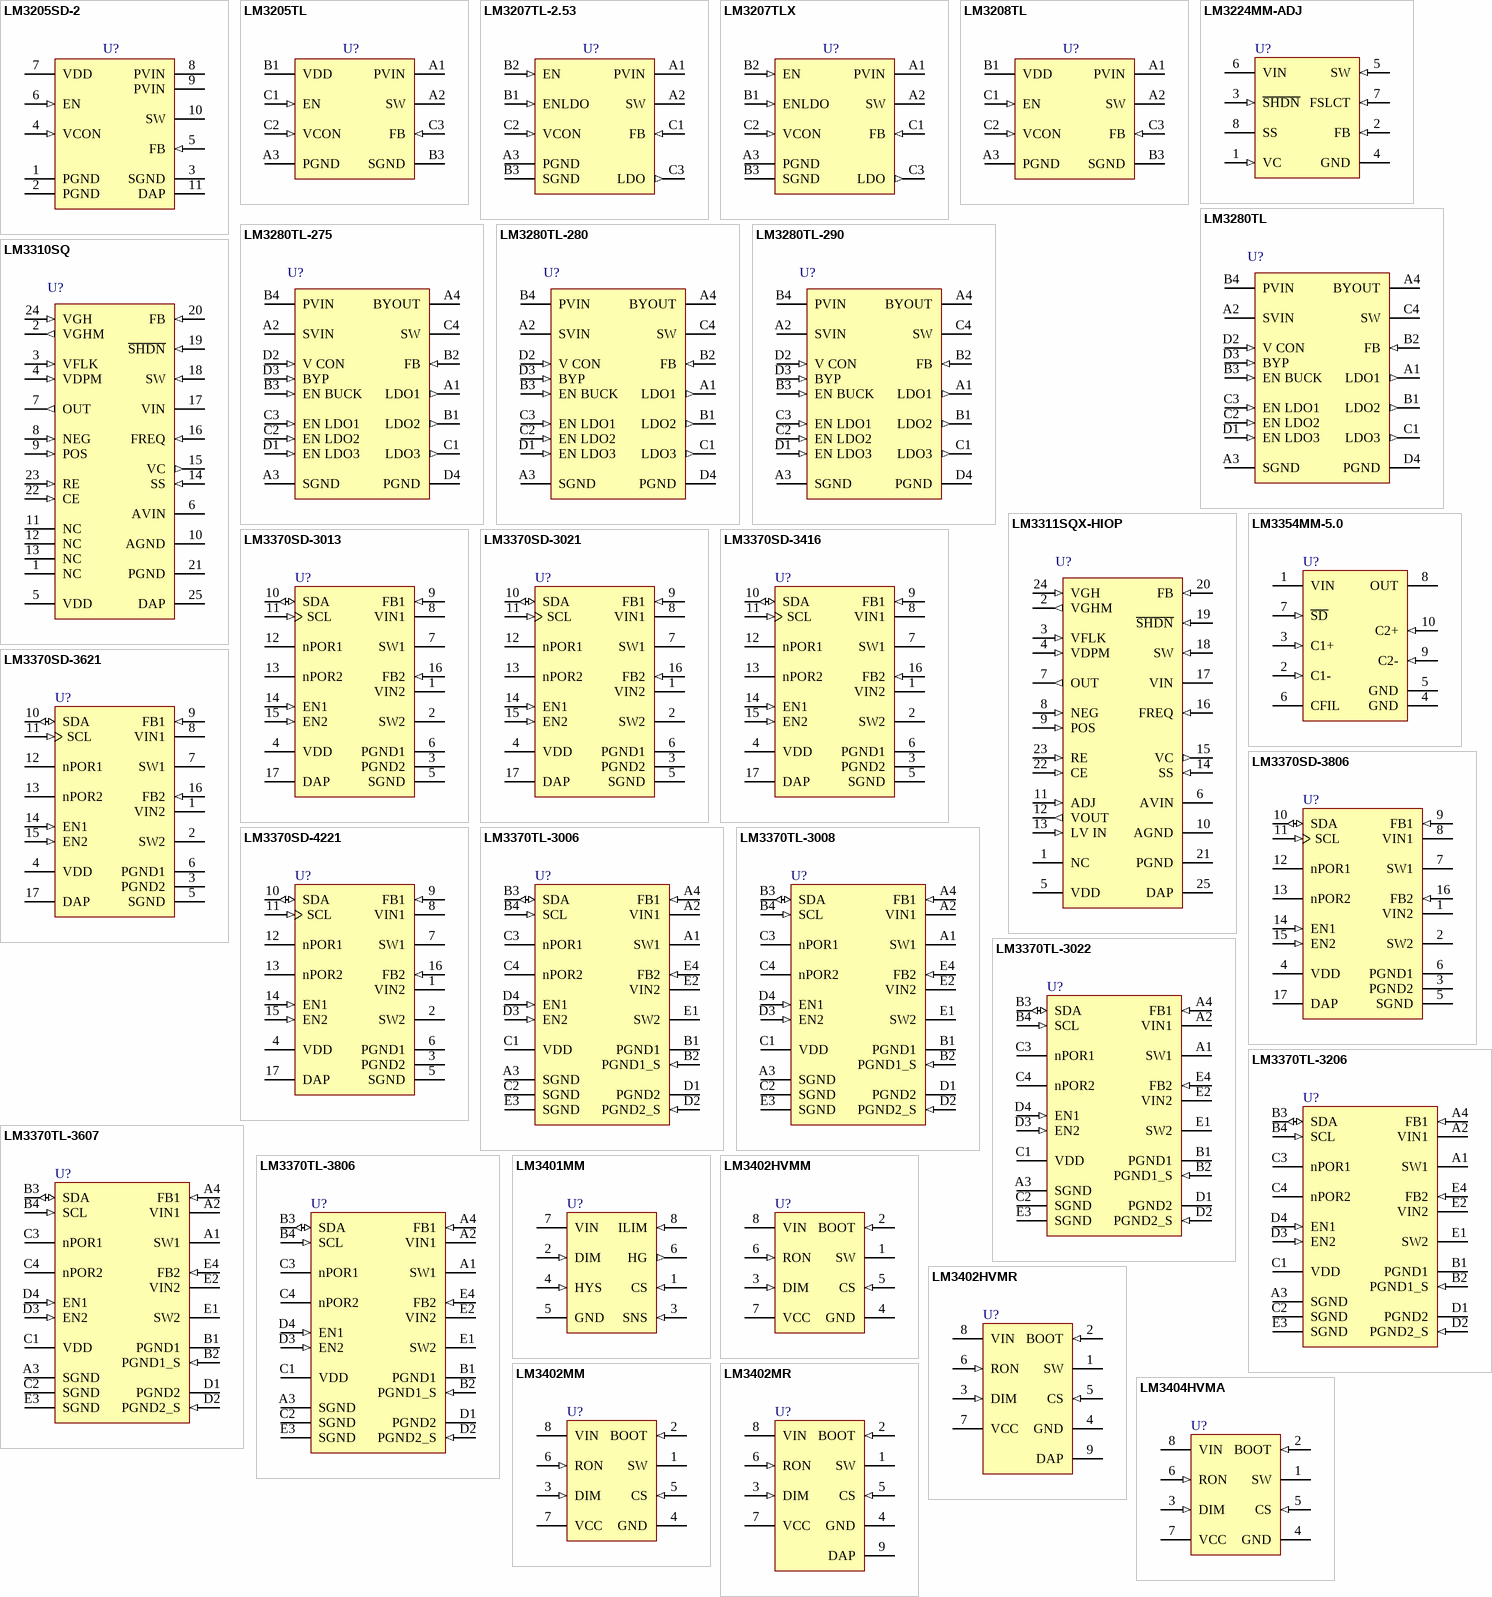
[diagram p14: symbols LM3205SD-2 to LM3404HVMA]

## LM3205SD-2
designator U?
650mA Miniature, Adjustable, Step-Down DC-DC Converter for RF Power Amplifiers; PartNumber: LM3205SD-2; Manufacturer: National Semiconductor; CompType: Switcher; PackageTopMarking: ZXYTT*S006B; Published: 4-Dec-2008; DatasheetVersion: Jan-2006; PackageVersion: revA, Oct-2003; PackageReference: SDA10A; Publisher: Altium Limited; PackageDescription: LLP, Plastic, Dual, 3 x 3 x 0.8mm Body, 10 Lead, 0.5mm Pitch, No Pullback; RoHS: Y; PinCount: 10; DigiKeyPartNumber: LM3205SD-2-ND; ComponentLink1Description: LM3205 Datasheet; ComponentLink1URL: http://www.national.com/ds/LM/LM3205.pdf; ComponentLink2Description: LM3205 Web Page; ComponentLink2URL: http://www.national.com/pf/LM/LM3205.html; ComponentLink3Description: SDA10A Package Drawing; ComponentLink3URL: http://www.national.com/packaging/folders/sda10a.html
footprint SDA10A (SON, 10-Leads, Body 3x3 mm, Pitch 0.5mm, NSC Recommended)
pins: 1 PGND (power), 2 PGND (power), 3 SGND (power), 4 VCON (in), 5 FB (in), 6 EN (in), 7 VDD (power), 8 PVIN (power), 9 PVIN (power), 10 SW, 11 DAP (power)

## LM3205TL
designator U?
650mA Miniature, Adjustable, Step-Down DC-DC Converter for RF Power Amplifiers; PartNumber: LM3205TL; Manufacturer: National Semiconductor; CompType: Switcher; PackageTopMarking: XVS*I 32; Published: 4-Dec-2008; DatasheetVersion: Jan-2006; PackageVersion: revC, Jan-2004; PackageReference: TLA08GNA; Publisher: Altium Limited; PackageDescription: Thin Micro SMD, 8 Bump (Large), 0.5mm Pitch; RoHS: Y; PinCount: 8; DigiKeyPartNumber: LM3205TLCT-ND; Code_JEDEC: MO-211-DD; ComponentLink1Description: LM3205 Datasheet; ComponentLink1URL: http://www.national.com/ds/LM/LM3205.pdf; ComponentLink2Description: LM3205 Web Page; ComponentLink2URL: http://www.national.com/pf/LM/LM3205.html; ComponentLink3Description: TLA08GNA Package Drawing; ComponentLink3URL: http://www.national.com/packaging/folders/tla08gna.html
footprint TLA08GNA (Micro SMD, 8-Leads, Body 1.82x1.67mm, Pitch 0.5mm, NSC Recommended)
pins: A1 PVIN (power), A2 SW, A3 PGND (power), B1 VDD (power), B3 SGND (power), C1 EN (in), C2 VCON (in), C3 FB (in)

## LM3207TL-2.53
designator U?
650mA Miniature, Adjustable, Step-Down DC-DC Converter for RF Power Amplifiers; PartNumber: LM3207TL-2.53; Manufacturer: National Semiconductor; CompType: Switcher; PackageTopMarking: XVS*I 43; Published: 4-Dec-2008; DatasheetVersion: Apr-2007; PackageVersion: revC, Jan-2004; PackageReference: TLA09TTA; Publisher: Altium Limited; PackageDescription: Thin Micro SMD, 9 Bump (Large), 0.5mm Pitch; RoHS: Y; PinCount: 9; DigiKeyPartNumber: LM3207TL-2.53CT-ND; Code_JEDEC: MO-211-DD; ComponentLink1Description: LM3207 Datasheet; ComponentLink1URL: http://www.national.com/ds/LM/LM3207.pdf; ComponentLink2Description: LM3207 Web Page; ComponentLink2URL: http://www.national.com/pf/LM/LM3207.html; ComponentLink3Description: TLA09TTA Package Drawing; ComponentLink3URL: http://www.national.com/packaging/folders/tla09tta.html
footprint TLA09TTA (Micro SMD, 9-Leads, Body 1.95x1.95mm, Pitch 0.5mm, NSC Recommended)
pins: A1 PVIN (power), A2 SW, A3 PGND (power), B1 ENLDO (in), B2 EN (in), B3 SGND (power), C1 FB (in), C2 VCON (in), C3 LDO (out)

## LM3207TLX
designator U?
650mA Miniature, Adjustable, Step-Down DC-DC Converter for RF Power Amplifiers; PartNumber: LM3207TLX; Manufacturer: National Semiconductor; CompType: Switcher; PackageTopMarking: XVS*I 34; Published: 4-Dec-2008; DatasheetVersion: Apr-2007; PackageVersion: revC, Jan-2004; PackageReference: TLA09TTA; Publisher: Altium Limited; PackageDescription: Thin Micro SMD, 9 Bump (Large), 0.5mm Pitch; RoHS: Y; PinCount: 9; DigiKeyPartNumber: LM3207TLX-ND; Code_JEDEC: MO-211-DD; ComponentLink1Description: LM3207 Datasheet; ComponentLink1URL: http://www.national.com/ds/LM/LM3207.pdf; ComponentLink2Description: LM3207 Web Page; ComponentLink2URL: http://www.national.com/pf/LM/LM3207.html; ComponentLink3Description: TLA09TTA Package Drawing; ComponentLink3URL: http://www.national.com/packaging/folders/tla09tta.html
footprint TLA09TTA (Micro SMD, 9-Leads, Body 1.95x1.95mm, Pitch 0.5mm, NSC Recommended)
pins: A1 PVIN (power), A2 SW, A3 PGND (power), B1 ENLDO (in), B2 EN (in), B3 SGND (power), C1 FB (in), C2 VCON (in), C3 LDO (out)

## LM3208TL
designator U?
650mA Miniature, Adjustable, Step-Down DC-DC Converter for RF Power Amplifiers; PartNumber: LM3208TL; Manufacturer: National Semiconductor; CompType: Switcher; PackageTopMarking: XVS*I 33; Published: 4-Dec-2008; DatasheetVersion: Apr-2006; PackageVersion: revC, Jan-2004; PackageReference: TLA08GNA; Publisher: Altium Limited; PackageDescription: Thin Micro SMD, 8 Bump (Large), 0.5mm Pitch; RoHS: Y; PinCount: 8; DigiKeyPartNumber: LM3208TLCT-ND; Code_JEDEC: MO-211-DD; ComponentLink1Description: LM3208 Datasheet; ComponentLink1URL: http://www.national.com/ds/LM/LM3208.pdf; ComponentLink2Description: LM3208 Web Page; ComponentLink2URL: http://www.national.com/pf/LM/LM3208.html; ComponentLink3Description: TLA08GNA Package Drawing; ComponentLink3URL: http://www.national.com/packaging/folders/tla08gna.html
footprint TLA08GNA (Micro SMD, 8-Leads, Body 1.82x1.67mm, Pitch 0.5mm, NSC Recommended)
pins: A1 PVIN (power), A2 SW, A3 PGND (power), B1 VDD (power), B3 SGND (power), C1 EN (in), C2 VCON (in), C3 FB (in)

## LM3224MM-ADJ
designator U?
615kHz/1.25MHz Step-Up PWM DC/DC Converter; PartNumber: LM3224MM-ADJ; Manufacturer: National Semiconductor; CompType: Switcher; PackageTopMarking: ZXTT*SEKB; Published: 4-Dec-2008; DatasheetVersion: Sep-2005; PackageVersion: revF, Apr-2008; PackageReference: MUA08A; Publisher: Altium Limited; PackageDescription: MINI SOIC, .118 x .118 x .034in, 8 Lead, .0256in Pitch; RoHS: Y; PinCount: 8; DigiKeyPartNumber: LM3224MM-ADJEV-ND; Code_JEDEC: MO-187-AA; ComponentLink1Description: LM3224 Datasheet; ComponentLink1URL: http://www.national.com/ds/LM/LM3224.pdf; ComponentLink2Description: LM3224 Web Page; ComponentLink2URL: http://www.national.com/pf/LM/LM3224.html; ComponentLink3Description: MUA08A Package Drawing; ComponentLink3URL: http://www.national.com/packaging/folders/mua08a.html
footprint MUA08A_N (TSOP, 8-Leads, Body 3x3mm, Pitch 0.65mm, IPC Medium Density)
footprint MUA08A_L (TSOP, 8-Leads, Body 3x3mm, Pitch 0.65mm, IPC High Density)
footprint MUA08A_M (TSOP, 8-Leads, Body 3x3mm, Pitch 0.65mm, IPC Low Density)
pins: 1 VC (in), 2 FB (in), 3 ~{SHDN} (in), 4 GND (power), 5 SW (in), 6 VIN (power), 7 FSLCT (in), 8 SS

## LM3280TL
designator U?
Adjustable Step-Down DC-DC Converter and 3 LDOs for RF Power Management; PartNumber: LM3280TL; Manufacturer: National Semiconductor; CompType: Switcher; PackageTopMarking: XYTT*I V001; Published: 4-Dec-2008; DatasheetVersion: Jan-2007; PackageVersion: revC, Jan-2004; PackageReference: TLA16QQA; Publisher: Altium Limited; PackageDescription: Thin Micro SMD, 16 Bump (Large), 0.5mm Pitch; RoHS: Y; PinCount: 16; DigiKeyPartNumber: LM3280TLEV-ND; Code_JEDEC: MO-211-DF; ComponentLink1Description: LM3280 Datasheet; ComponentLink1URL: http://www.national.com/ds/LM/LM3280.pdf; ComponentLink2Description: LM3280 Web Page; ComponentLink2URL: http://www.national.com/pf/LM/LM3280.html; ComponentLink3Description: TLA16QQA Package Drawing; ComponentLink3URL: http://www.national.com/packaging/folders/tla16qqa.html
footprint TLA16QQA (Micro SMD, 16-Leads, Body 2.35x2.35mm, Pitch 0.5mm, NSC Recommended)
pins: A1 LDO1 (out), A2 SVIN (power), A3 SGND (power), A4 BYOUT (oc), B1 LDO2 (out), B2 FB (in), B3 EN BUCK (in), B4 PVIN (power), C1 LDO3 (out), C2 EN LDO2 (in), C3 EN LDO1 (in), C4 SW (power), D1 EN LDO3 (in), D2 V CON (in), D3 BYP (in), D4 PGND (power)

## LM3280TL-275
designator U?
Adjustable Step-Down DC-DC Converter and 3 LDOs for RF Power Management; PartNumber: LM3280TL-275; Manufacturer: National Semiconductor; CompType: Switcher; PackageTopMarking: XYTT*I V002; Published: 4-Dec-2008; DatasheetVersion: Jan-2007; PackageVersion: revC, Jan-2004; PackageReference: TLA16QQA; Publisher: Altium Limited; PackageDescription: Thin Micro SMD, 16 Bump (Large), 0.5mm Pitch; RoHS: Y; PinCount: 16; DigiKeyPartNumber: LM3280TL-275CT-ND; Code_JEDEC: MO-211-DF; ComponentLink1Description: LM3280 Datasheet; ComponentLink1URL: http://www.national.com/ds/LM/LM3280.pdf; ComponentLink2Description: LM3280 Web Page; ComponentLink2URL: http://www.national.com/pf/LM/LM3280.html; ComponentLink3Description: TLA16QQA Package Drawing; ComponentLink3URL: http://www.national.com/packaging/folders/tla16qqa.html
footprint TLA16QQA (Micro SMD, 16-Leads, Body 2.35x2.35mm, Pitch 0.5mm, NSC Recommended)
pins: A1 LDO1 (out), A2 SVIN (power), A3 SGND (power), A4 BYOUT (oc), B1 LDO2 (out), B2 FB (in), B3 EN BUCK (in), B4 PVIN (power), C1 LDO3 (out), C2 EN LDO2 (in), C3 EN LDO1 (in), C4 SW (power), D1 EN LDO3 (in), D2 V CON (in), D3 BYP (in), D4 PGND (power)

## LM3280TL-280
designator U?
Adjustable Step-Down DC-DC Converter and 3 LDOs for RF Power Management; PartNumber: LM3280TL-280; Manufacturer: National Semiconductor; CompType: Switcher; PackageTopMarking: XYTT*I V003; Published: 4-Dec-2008; DatasheetVersion: Jan-2007; PackageVersion: revC, Jan-2004; PackageReference: TLA16QQA; Publisher: Altium Limited; PackageDescription: Thin Micro SMD, 16 Bump (Large), 0.5mm Pitch; RoHS: Y; PinCount: 16; DigiKeyPartNumber: LM3280TL-280CT-ND; Code_JEDEC: MO-211-DF; ComponentLink1Description: LM3280 Datasheet; ComponentLink1URL: http://www.national.com/ds/LM/LM3280.pdf; ComponentLink2Description: LM3280 Web Page; ComponentLink2URL: http://www.national.com/pf/LM/LM3280.html; ComponentLink3Description: TLA16QQA Package Drawing; ComponentLink3URL: http://www.national.com/packaging/folders/tla16qqa.html
footprint TLA16QQA (Micro SMD, 16-Leads, Body 2.35x2.35mm, Pitch 0.5mm, NSC Recommended)
pins: A1 LDO1 (out), A2 SVIN (power), A3 SGND (power), A4 BYOUT (oc), B1 LDO2 (out), B2 FB (in), B3 EN BUCK (in), B4 PVIN (power), C1 LDO3 (out), C2 EN LDO2 (in), C3 EN LDO1 (in), C4 SW (power), D1 EN LDO3 (in), D2 V CON (in), D3 BYP (in), D4 PGND (power)

## LM3280TL-290
designator U?
Adjustable Step-Down DC-DC Converter and 3 LDOs for RF Power Management; PartNumber: LM3280TL-290; Manufacturer: National Semiconductor; CompType: Switcher; PackageTopMarking: XYTT*I V004; Published: 4-Dec-2008; DatasheetVersion: Jan-2007; PackageVersion: revC, Jan-2004; PackageReference: TLA16QQA; Publisher: Altium Limited; PackageDescription: Thin Micro SMD, 16 Bump (Large), 0.5mm Pitch; RoHS: Y; PinCount: 16; DigiKeyPartNumber: LM3280TL-290CT-ND; Code_JEDEC: MO-211-DF; ComponentLink1Description: LM3280 Datasheet; ComponentLink1URL: http://www.national.com/ds/LM/LM3280.pdf; ComponentLink2Description: LM3280 Web Page; ComponentLink2URL: http://www.national.com/pf/LM/LM3280.html; ComponentLink3Description: TLA16QQA Package Drawing; ComponentLink3URL: http://www.national.com/packaging/folders/tla16qqa.html
footprint TLA16QQA (Micro SMD, 16-Leads, Body 2.35x2.35mm, Pitch 0.5mm, NSC Recommended)
pins: A1 LDO1 (out), A2 SVIN (power), A3 SGND (power), A4 BYOUT (oc), B1 LDO2 (out), B2 FB (in), B3 EN BUCK (in), B4 PVIN (power), C1 LDO3 (out), C2 EN LDO2 (in), C3 EN LDO1 (in), C4 SW (power), D1 EN LDO3 (in), D2 V CON (in), D3 BYP (in), D4 PGND (power)

## LM3310SQ
designator U?
Step-Up PWM DC/DC Converter with Integrated Op-Amp and Gate Pulse Modulation Switch; PartNumber: LM3310SQ; Manufacturer: National Semiconductor; CompType: Switcher; PackageTopMarking: NS*UZXYTT*L3310SQ; Published: 4-Dec-2008; DatasheetVersion: Nov-2007; PackageVersion: revB, Aug-2003; PackageReference: SQA24A; Publisher: Altium Limited; PackageDescription: LLP, Plastic, Quad, 4 x 4 x 0.8mm Body, 24 Lead, 0.5mm Pitch, No Pullback; RoHS: Y; PinCount: 24; DigiKeyPartNumber: LM3310SQCT-ND; Code_JEDEC: MO-220-WGGD-6; ComponentLink1Description: LM3310 Datasheet; ComponentLink1URL: http://www.national.com/ds/LM/LM3310.pdf; ComponentLink2Description: LM3310 Web Page; ComponentLink2URL: http://www.national.com/pf/LM/LM3310.html; ComponentLink3Description: SQA24A Package Drawing; ComponentLink3URL: http://www.national.com/packaging/folders/sqa24a.html
footprint SQA24A (QFN, 24-Leads, Body 4x4mm, Pitch 0.5mm, NSC Recommended)
pins: 1 NC, 2 VGHM (out), 3 VFLK (in), 4 VDPM (in), 5 VDD (power), 6 AVIN (power), 7 OUT (out), 8 NEG (in), 9 POS (in), 10 AGND (power), 11 NC, 12 NC, 13 NC, 14 SS (in), 15 VC (out), 16 FREQ (in), 17 VIN (power), 18 SW (in), 19 ~{SHDN} (in), 20 FB (in), 21 PGND (power), 22 CE (in), 23 RE (in), 24 VGH (in), 25 DAP (power)

## LM3311SQX-HIOP
designator U?
Step-Up PWM DC/DC Converter with Integrated LDO, Op-Amp, and Gate Pulse Modulation Switch; PartNumber: LM3311SQX-HIOP; Manufacturer: National Semiconductor; CompType: Switcher; PackageTopMarking: NS*UZXYTT*L3311HP; Published: 4-Dec-2008; DatasheetVersion: Nov-2007; PackageVersion: revB, Aug-2003; PackageReference: SQA24A; Publisher: Altium Limited; PackageDescription: LLP, Plastic, Quad, 4 x 4 x 0.8mm Body, 24 Lead, 0.5mm Pitch, No Pullback; RoHS: Y; PinCount: 24; DigiKeyPartNumber: LM3311SQX-HIOP-ND; Code_JEDEC: MO-220-WGGD-6; ComponentLink1Description: LM3311 Datasheet; ComponentLink1URL: http://www.national.com/ds/LM/LM3311.pdf; ComponentLink2Description: LM3311 Web Page; ComponentLink2URL: http://www.national.com/pf/LM/LM3311.html; ComponentLink3Description: SQA24A Package Drawing; ComponentLink3URL: http://www.national.com/packaging/folders/sqa24a.html
footprint SQA24A (QFN, 24-Leads, Body 4x4mm, Pitch 0.5mm, NSC Recommended)
pins: 1 NC, 2 VGHM (out), 3 VFLK (in), 4 VDPM (in), 5 VDD (power), 6 AVIN (power), 7 OUT (out), 8 NEG (in), 9 POS (in), 10 AGND (power), 11 ADJ (in), 12 VOUT (out), 13 LV IN (in), 14 SS (in), 15 VC (out), 16 FREQ (in), 17 VIN (power), 18 SW (in), 19 ~{SHDN} (in), 20 FB (in), 21 PGND (power), 22 CE (in), 23 RE (in), 24 VGH (in), 25 DAP (power)

## LM3354MM-5.0
designator U?
Regulated 90mA Buck-Boost Switched Capacitor DC/DC Converter; PartNumber: LM3354MM-5.0; Manufacturer: National Semiconductor; CompType: Switcher; PackageTopMarking: ZXTT*S54B; Published: 4-Dec-2008; DatasheetVersion: Sep-2002; PackageVersion: revB, Jul-2003; PackageReference: MUB10A; Publisher: Altium Limited; PackageDescription: Mini-SO, Molded, .118 x .118 x .034in Body, 10 Lead, .0197in Pitch; RoHS: O; PinCount: 10; DigiKeyPartNumber: LM3354MM-5.0CT-ND; Code_JEDEC: MO-187-BA; ComponentLink1Description: LM3354 Datasheet; ComponentLink1URL: http://www.national.com/ds/LM/LM3354.pdf; ComponentLink2Description: LM3354 Web Page; ComponentLink2URL: http://www.national.com/pf/LM/LM3354.html; ComponentLink3Description: MUB10A Package Drawing; ComponentLink3URL: http://www.national.com/packaging/folders/mub10a.html
footprint MUB10A_N (TSSOP, 10-Leads, Body 3x3mm, Pitch 0.5mm, IPC Medium Density)
footprint MUB10A_L (TSSOP, 10-Leads, Body 3x3mm, Pitch 0.5mm, IPC High Density)
footprint MUB10A_M (TSSOP, 10-Leads, Body 3x3mm, Pitch 0.5mm, IPC Low Density)
pins: 1 VIN (power), 2 C1- (in), 3 C1+ (in), 4 GND (power), 5 GND (power), 6 CFIL, 7 ~{SD} (in), 8 OUT (power), 9 C2- (in), 10 C2+ (in)

## LM3370SD-3013
designator U?
Dual Synchronous Step-Down DC-DC Converter with Dynamic Voltage Scaling Function; PartNumber: LM3370SD-3013; Manufacturer: National Semiconductor; CompType: Switcher; PackageTopMarking: NS*UZXYTT*S0003UB; Published: 4-Dec-2008; DatasheetVersion: Jan-2008; PackageVersion: revA, Dec-2004; PackageReference: SDA16B; Publisher: Altium Limited; PackageDescription: LLP, Plastic, Dual, 5 x 4 x 0.8mm, 16 Lead, 0.5mm Pitch, No Pullback; RoHS: Y; PinCount: 16; DigiKeyPartNumber: LM3370SD-3013CT-ND; ComponentLink1Description: LM3370 Datasheet; ComponentLink1URL: http://www.national.com/ds/LM/LM3370.pdf; ComponentLink2Description: LM3370 Web Page; ComponentLink2URL: http://www.national.com/pf/LM/LM3370.html; ComponentLink3Description: SDA16B Package Drawing; ComponentLink3URL: http://www.national.com/packaging/folders/sda16b.html
footprint SDA16B (SON, 16-Leads, Body 5x4mm, Pitch 0.5mm, NSC Recommended)
pins: 1 VIN2 (power) "Power supply voltage input to PFET and NFET switches for Buck 2", 2 SW2 (power) "Buck 2 Switch Pin", 3 PGND2 (power) "Buck 2 Power Ground", 4 VDD (power) "Signal supply voltage input, VDDmust be equal or greater of the two inputs (VIN1& VIN2)", 5 SGND (power) "Signal GND", 6 PGND1 (power) "Buck 1 Power Ground", 7 SW1 (power) "Buck 1 Switch Pin", 8 VIN1 (power) "Power supply voltage input to PFET and NFET switches for Buck 1", 9 FB1 (in) "Analog Feedback Input for Buck 1", 10 SDA (io) "I2C Compatible Data, a 2 kOhm pull up resistor is required", 11 SCL (in) "I2C Compatible Clock, a 2 kOhm pull up resistor is required", 12 nPOR1 (oc) "Power ON Reset for Buck 1, Open drain output Low when Buck 1 output is 92% of target output.", 13 nPOR2 (oc) "Power ON Reset for Buck 2, Open drain output Low when Buck 2 output is 92% of target output.", 14 EN1 (in) "Buck 1 Enable", 15 EN2 (in) "Buck 2 Enable", 16 FB2 (in) "Analog feedback for Buck 2", 17 DAP (power)

## LM3370SD-3021
designator U?
Dual Synchronous Step-Down DC-DC Converter with Dynamic Voltage Scaling Function; PartNumber: LM3370SD-3021; Manufacturer: National Semiconductor; CompType: Switcher; PackageTopMarking: NS*UZXYTT*S0003TB; Published: 4-Dec-2008; DatasheetVersion: Jan-2008; PackageVersion: revA, Dec-2004; PackageReference: SDA16B; Publisher: Altium Limited; PackageDescription: LLP, Plastic, Dual, 5 x 4 x 0.8mm, 16 Lead, 0.5mm Pitch, No Pullback; RoHS: Y; PinCount: 16; DigiKeyPartNumber: LM3370SD-3021EV-ND; ComponentLink1Description: LM3370 Datasheet; ComponentLink1URL: http://www.national.com/ds/LM/LM3370.pdf; ComponentLink2Description: LM3370 Web Page; ComponentLink2URL: http://www.national.com/pf/LM/LM3370.html; ComponentLink3Description: SDA16B Package Drawing; ComponentLink3URL: http://www.national.com/packaging/folders/sda16b.html
footprint SDA16B (SON, 16-Leads, Body 5x4mm, Pitch 0.5mm, NSC Recommended)
pins: 1 VIN2 (power) "Power supply voltage input to PFET and NFET switches for Buck 2", 2 SW2 (power) "Buck 2 Switch Pin", 3 PGND2 (power) "Buck 2 Power Ground", 4 VDD (power) "Signal supply voltage input, VDDmust be equal or greater of the two inputs (VIN1& VIN2)", 5 SGND (power) "Signal GND", 6 PGND1 (power) "Buck 1 Power Ground", 7 SW1 (power) "Buck 1 Switch Pin", 8 VIN1 (power) "Power supply voltage input to PFET and NFET switches for Buck 1", 9 FB1 (in) "Analog Feedback Input for Buck 1", 10 SDA (io) "I2C Compatible Data, a 2 kOhm pull up resistor is required", 11 SCL (in) "I2C Compatible Clock, a 2 kOhm pull up resistor is required", 12 nPOR1 (oc) "Power ON Reset for Buck 1, Open drain output Low when Buck 1 output is 92% of target output.", 13 nPOR2 (oc) "Power ON Reset for Buck 2, Open drain output Low when Buck 2 output is 92% of target output.", 14 EN1 (in) "Buck 1 Enable", 15 EN2 (in) "Buck 2 Enable", 16 FB2 (in) "Analog feedback for Buck 2", 17 DAP (power)